# EAGLE library part HILFSSCHUETZ_11-12_21-22_33-34 (library e-schuetze-relais)
Hilfsschütz mit zwei 2 Öffnern, 1 Schließer
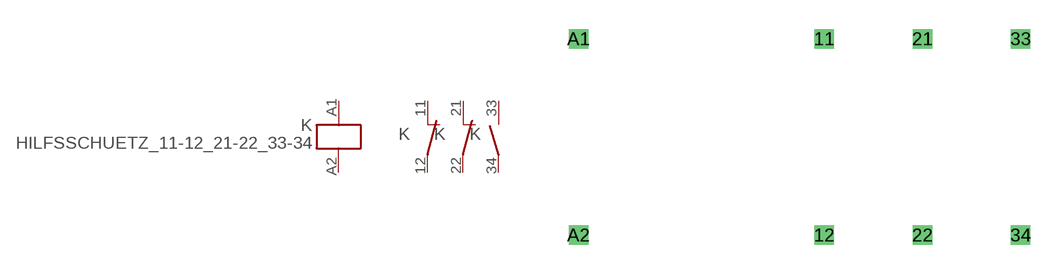
[diagram p6: symbol with the pads of HILFSSCHUETZ_11-12_21-22_33-34; footprint HILFSSCHUETZ_11-12_21-22_33-34]

Designator prefix K; gates G$1=SPULE 3=SCHLIESSER 1=OEFFNER 2=OEFFNER

## HILFSSCHUETZ_11-12_21-22_33-34  [HILFSSCHUETZ_11-12_21-22_33-34]
11  1:1  pas
12  1:2  pas
21  2:1  pas
22  2:2  pas
33  3:3  pas
34  3:4  pas
A1  G$1:A1  in
A2  G$1:A2  in

## Footprint HILFSSCHUETZ_11-12_21-22_33-34 (pad centres in mm)
Dummy
drill 0.5 pad 1 square: 11 2.54,5.08; 12 2.54,-5.08; 21 7.62,5.08; 22 7.62,-5.08; 33 12.7,5.08; 34 12.7,-5.08; A1 -10.16,5.08; A2 -10.16,-5.08